# EAGLE library part RES_ARRAY8 (library akita)
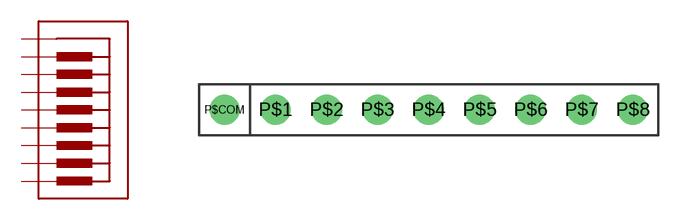
[diagram p36: symbol with the pads of SIP9; footprint SIP9]

Designator prefix -

## RES_ARRAY8  [SIP9]
P$1  P$1
P$2  P$2
P$3  P$3
P$4  P$4
P$5  P$5
P$6  P$6
P$7  P$7
P$8  P$8
P$COM  P$COM

## Footprint SIP9 (pad centres in mm)
drill 1: P$1 -7.62,0; P$2 -5.08,0; P$3 -2.54,0; P$4 0,0; P$5 2.54,0; P$6 5.08,0; P$7 7.62,0; P$8 10.16,0; P$COM -10.16,0